# Altium schematic symbol library TP_TE_Connectivity_5-146280-1_1POS.SchLib: 1 symbol
Pins are listed as number, name and electrical type; pins without a type are passive.

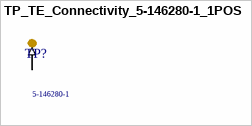
[diagram p0: symbol TP_TE_Connectivity_5-146280-1_1POS]

## TP_TE_Connectivity_5-146280-1_1POS
designator TP?  Series: 5-146280-1  (hidden comment: TP_TE_Connectivity_5-146280-1_1POS)
Headers & Wire Housings Unshrouded 1 POS T/H; Supplier Part Number 1: 571-51462801; Supplier 1: Mouser
footprint TP_TE_Connectivity_5-146280-1_1POS
pins: 1 (in)